# Altium footprint library D 单片机.PcbLib: 12 footprints
Each footprint in its own frame and in the unit in brackets; x right, y up, seen from the top. Pads: shape width x height; smd on the part's side, far side on the other; paste and mask are expansions set on the pad; w line width, h text height; cw(c..) or ccw(c..) is an arc to the next point about the centre after c.
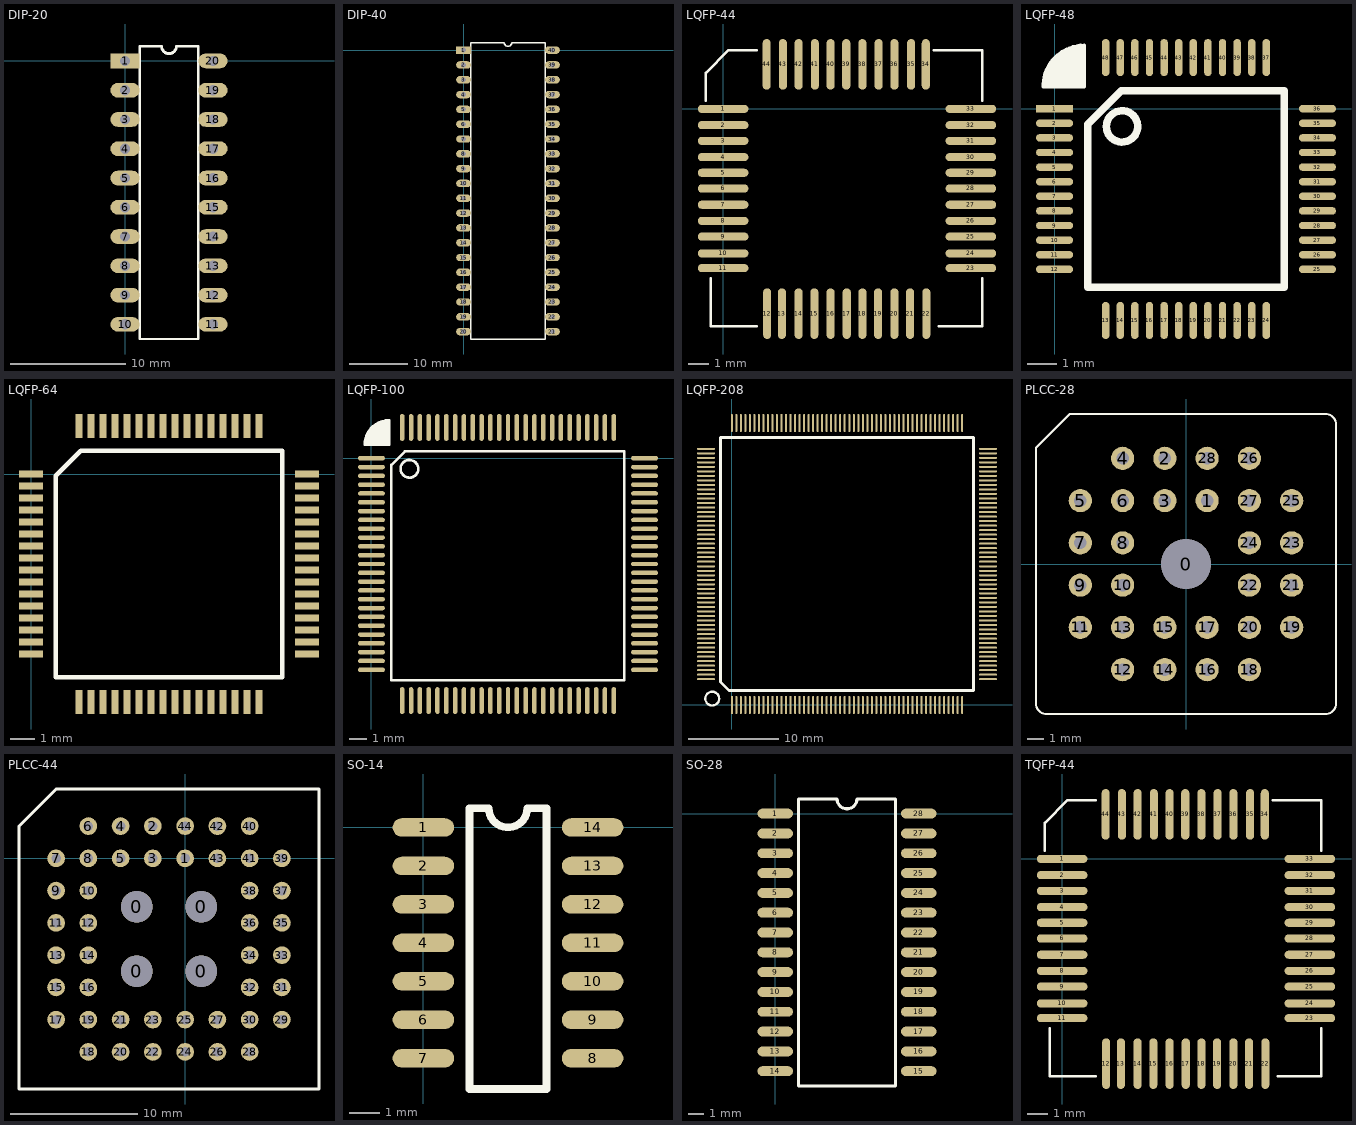
[diagram p0: the footprints below, top view; thin cyan lines are the x and y axes]

## DIP-20 [mil] "IC"
pads (20):
  rect 100x50 hole 35: 1(0,0)
  oval 100x50 hole 35: 2(0,-100) 3(0,-200) 4(0,-300) 5(0,-400) 6(0,-500) 7(0,-600) 8(0,-700) 9(0,-800) 10(0,-900) 11(300,-900) 12(300,-800) 13(300,-700) 14(300,-600) 15(300,-500) 16(300,-400) 17(300,-300) 18(300,-200) 19(300,-100) 20(300,0)
Top Overlay:
  lines w8: 125,50 50,50 50,-950 250,-950 250,50 175,50
  lines w10: 125,50 ccw(c150,50) 175,50

## DIP-40 [mil] "IC"
pads (40):
  rect 100x50 hole 32: 1(0,0)
  oval 100x50 hole 32: 2(0,-100) 3(0,-200) 4(0,-300) 5(0,-400) 6(0,-500) 7(0,-600) 8(0,-700) 9(0,-800) 10(0,-900) 11(0,-1000) 12(0,-1100) 13(0,-1200) 14(0,-1300) 15(0,-1400) 16(0,-1500) 17(0,-1600) 18(0,-1700) 19(0,-1800) 20(0,-1900) 21(600,-1900) 22(600,-1800) 23(600,-1700) 24(600,-1600) 25(600,-1500) 26(600,-1400) 27(600,-1300) 28(600,-1200) 29(600,-1100) 30(600,-1000) 31(600,-900) 32(600,-800) 33(600,-700) 34(600,-600) 35(600,-500) 36(600,-400) 37(600,-300) 38(600,-200) 39(600,-100) 40(600,0)
Top Overlay:
  lines w10: 50,-1950 50,50 275,50 ccw(c300,50) 325,50 550,50 550,-1950 50,-1950

## LQFP-44 [mil]
height 51.18
pads (44):
  oval 100x16 smd: 1(0,0) 2(0,-32) 3(0,-63) 4(0,-95) 5(0,-126) 6(0,-157) 7(0,-189) 8(0,-221) 9(0,-252) 10(0,-285) 11(0,-314) 23(489,-314) 24(489,-285) 25(489,-252) 26(489,-221) 27(489,-189) 28(489,-157) 29(489,-126) 30(489,-95) 31(489,-63) 32(489,-32) 33(489,0)
  oval 16x100 smd: 12(87,-404) 13(116,-404) 14(149,-404) 15(180,-404) 16(212,-404) 17(244,-404) 18(275,-404) 19(306,-404) 20(338,-404) 21(369,-404) 22(401,-404) 34(400,88) 35(371,88) 36(338,88) 37(307,88) 38(275,88) 39(243,88) 40(212,88) 41(181,88) 42(149,88) 43(118,88) 44(86,88)
Top Overlay:
  lines w5: -34,16 -34,46 ; -34,36 -34,71 11,116 66,116 36,116 ; -24,-334 -24,-429 66,-429 ; 416,116 511,116 511,16 ; 426,-429 501,-429 511,-429 511,-334

## LQFP-48 [mm]
height 2.235
pads (48):
  rect 1.27x0.254 smd: 1(0,0)
  oval 1.27x0.254 smd: 2(0,-0.5) 3(0,-1) 4(0,-1.5) 5(0,-2) 6(0,-2.5) 7(0,-3) 8(0,-3.5) 9(0,-4) 10(0,-4.5) 11(0,-5) 12(0,-5.5) 25(9,-5.5) 26(9,-5) 27(9,-4.5) 28(9,-4) 29(9,-3.5) 30(9,-3) 31(9,-2.5) 32(9,-2) 33(9,-1.5) 34(9,-1) 35(9,-0.5) 36(9,0)
  oval 0.254x1.27 smd: 13(1.75,-7.25) 14(2.25,-7.25) 15(2.75,-7.25) 16(3.25,-7.25) 17(3.75,-7.25) 18(4.25,-7.25) 19(4.75,-7.25) 20(5.25,-7.25) 21(5.75,-7.25) 22(6.25,-7.25) 23(6.75,-7.25) 24(7.25,-7.25) 37(7.25,1.75) 38(6.75,1.75) 39(6.25,1.75) 40(5.75,1.75) 41(5.25,1.75) 42(4.75,1.75) 43(4.25,1.75) 44(3.75,1.75) 45(3.25,1.75) 46(2.75,1.75) 47(2.25,1.75) 48(1.75,1.75)
Top Overlay:
  lines w0.127: -0.387,0.762 cw(c1.016,0.762) 1.016,2.165 ; -0.381,0.864 -0.381,0.762 1.016,0.762 1.016,2.159 ; -0.254,0.762 -0.254,1.346 ; -0.127,0.762 -0.127,1.575 ; 0,0.762 0,1.727 ; 0.127,0.762 0.127,1.829 ; 0.254,0.762 0.254,1.93 ; 0.381,0.762 0.381,2.007 ; 0.508,0.762 0.508,2.057 ; 0.635,0.762 0.635,2.108 ; 0.762,0.762 0.762,2.134 ; 0.889,0.762 0.889,2.159
  lines w0.254: 2.829,-0.471 ccw(c2.311,-0.607) 2.845,-0.559 ; 1.143,-6.107 7.857,-6.107 7.857,0.607 2.286,0.607 1.143,-0.536 1.143,-6.107

## LQFP-64 [mm]
pads (64):
  rect 1x0.28 smd: 1(0,0) 2(0,-0.5) 3(0,-1) 4(0,-1.5) 5(0,-2) 6(0,-2.5) 7(0,-3) 8(0,-3.5) 9(0,-4) 10(0,-4.5) 11(0,-5) 12(0,-5.5) 13(0,-6) 14(0,-6.5) 15(0,-7) 16(0,-7.5) 33(11.5,-7.5) 34(11.5,-7) 35(11.5,-6.5) 36(11.5,-6) 37(11.5,-5.5) 38(11.5,-5) 39(11.5,-4.5) 40(11.5,-4) 41(11.5,-3.5) 42(11.5,-3) 43(11.5,-2.5) 44(11.5,-2) 45(11.5,-1.5) 46(11.5,-1) 47(11.5,-0.5) 48(11.5,0)
  rect 0.28x1 smd: 17(2,-9.5) 18(2.5,-9.5) 19(3,-9.5) 20(3.5,-9.5) 21(4,-9.5) 22(4.5,-9.5) 23(5,-9.5) 24(5.5,-9.5) 25(6,-9.5) 26(6.5,-9.5) 27(7,-9.5) 28(7.5,-9.5) 29(8,-9.5) 30(8.5,-9.5) 31(9,-9.5) 32(9.5,-9.5) 49(9.5,2) 50(9,2) 51(8.5,2) 52(8,2) 53(7.5,2) 54(7,2) 55(6.5,2) 56(6,2) 57(5.5,2) 58(5,2) 59(4.5,2) 60(4,2) 61(3.5,2) 62(3,2) 63(2.5,2) 64(2,2)
Top Overlay:
  lines w0.2: 1.035,-8.465 1.035,-0.07 2.07,0.965 10.465,0.965 10.465,-8.465 1.035,-8.465

## LQFP-100 [mil] "14mmx14mmx1.4mm"
height 55.12
pads (100):
  oval 60x10 smd: 1(0.28,0) 2(0.27,-19.68) 3(0.27,-39.37) 4(0.27,-59.05) 5(0.27,-78.74) 6(0.27,-98.42) 7(0.27,-118.11) 8(0.27,-137.79) 9(0.27,-157.48) 10(0.27,-177.16) 11(0.27,-196.85) 12(0.27,-216.53) 13(0.27,-236.22) 14(0.27,-255.91) 15(0.27,-275.59) 16(0.27,-295.27) 17(0.27,-314.96) 18(0.27,-334.64) 19(0.27,-354.33) 20(0.27,-374.01) 21(0.27,-393.7) 22(0.27,-413.38) 23(0.27,-433.07) 24(0.27,-452.75) 25(0.27,-472.44) 51(610.2,-472.44) 52(610.19,-452.75) 53(610.2,-433.07) 54(610.19,-413.38) 55(610.19,-393.7) 56(610.19,-374.01) 57(610.19,-354.33) 58(610.2,-334.65) 59(610.19,-314.96) 60(610.19,-295.27) 61(610.19,-275.59) 62(610.19,-255.9) 63(610.2,-236.22) 64(610.2,-216.54) 65(610.19,-196.85) 66(610.19,-177.16) 67(610.19,-157.48) 68(610.19,-137.79) 69(610.19,-118.11) 70(610.19,-98.42) 71(610.19,-78.74) 72(610.19,-59.05) 73(610.2,-39.37) 74(610.19,-19.68) 75(610.2,0)
  oval 10x60 smd: 26(69.02,-541.18) 27(88.69,-541.18) 28(108.38,-541.18) 29(128.06,-541.18) 30(147.75,-541.18) 31(167.43,-541.18) 32(187.12,-541.18) 33(206.8,-541.18) 34(226.49,-541.18) 35(246.17,-541.18) 36(265.86,-541.18) 37(285.54,-541.18) 38(305.23,-541.18) 39(324.91,-541.18) 40(344.6,-541.18) 41(364.28,-541.18) 42(383.97,-541.18) 43(403.65,-541.18) 44(423.34,-541.18) 45(443.04,-541.18) 46(462.71,-541.18) 47(482.39,-541.18) 48(502.09,-541.18) 49(521.78,-541.18) 50(541.46,-541.18) 76(541.46,68.74) 77(521.76,68.74) 78(502.09,68.74) 79(482.41,68.74) 80(462.72,68.74) 81(443.04,68.74) 82(423.35,68.74) 83(403.66,68.74) 84(383.98,68.74) 85(364.29,68.74) 86(344.6,68.74) 87(324.91,68.74) 88(305.23,68.74) 89(285.54,68.74) 90(265.86,68.74) 91(246.17,68.74) 92(226.49,68.74) 93(206.8,68.74) 94(187.12,68.74) 95(167.43,68.74) 96(147.75,68.74) 97(128.06,68.74) 98(108.38,68.74) 99(88.69,68.74) 100(69.02,68.74)
Top Overlay:
  circle w6: c85.07,-23.62 r19.68
  lines w5: -15.23,30 cw(c40,30) 40,85.23 ; -15,34 -15,30 40,30 40,85 ; -10,30 -10,53 ; -5,30 -5,62 ; 0,30 0,68 ; 5,30 5,72 ; 10,30 10,76 ; 15,30 15,79 ; 20,30 20,81 ; 25,30 25,83 ; 30,30 30,84 ; 35,30 35,85
  lines w6: 44.76,-14.25 44.76,-496.06 564.76,-496.06 564.76,15.75 74.76,15.75 ; 45,-15 75,15

## LQFP-208 [mm]
pads (208):
  rect 0.22x2 smd: 1(0.01,-0.001)
  oval 0.22x2 smd: 2(0.51,-0.001) 3(1.01,-0.001) 4(1.51,-0.001) 5(2.01,-0.001) 6(2.51,-0.001) 7(3.01,-0.001) 8(3.51,-0.001) 9(4.01,-0.001) 10(4.51,-0.001) 11(5.01,-0.001) 12(5.51,-0.001) 13(6.01,-0.001) 14(6.51,-0.001) 15(7.01,-0.001) 16(7.51,-0.001) 17(8.01,-0.001) 18(8.51,-0.001) 19(9.01,-0.001) 20(9.51,-0.001) 21(10.01,-0.001) 22(10.51,-0.001) 23(11.01,-0.001) 24(11.51,-0.001) 25(12.01,-0.001) 26(12.51,-0.001) 27(13.01,-0.001) 28(13.51,-0.001) 29(14.01,-0.001) 30(14.51,-0.001) 31(15.01,-0.001) 32(15.51,-0.001) 33(16.01,-0.001) 34(16.51,-0.001) 35(17.01,-0.001) 36(17.51,-0.001) 37(18.01,-0.001) 38(18.51,-0.001) 39(19.01,-0.001) 40(19.51,-0.001) 41(20.01,-0.001) 42(20.51,-0.001) 43(21.01,-0.001) 44(21.51,-0.001) 45(22.01,-0.001) 46(22.51,-0.001) 47(23.01,-0.001) 48(23.51,-0.001) 49(24.01,-0.001) 50(24.51,-0.001) 51(25.01,-0.001) 52(25.51,-0.001) 105(25.51,31.199) 106(25.01,31.199) 107(24.51,31.199) 108(24.01,31.199) 109(23.51,31.199) 110(23.01,31.199) 111(22.51,31.199) 112(22.01,31.199) 113(21.51,31.199) 114(21.01,31.199) 115(20.51,31.199) 116(20.01,31.199) 117(19.51,31.199) 118(19.01,31.199) 119(18.51,31.199) 120(18.01,31.199) 121(17.51,31.199) 122(17.01,31.199) 123(16.51,31.199) 124(16.01,31.199) 125(15.51,31.199) 126(15.01,31.199) 127(14.51,31.199) 128(14.01,31.199) 129(13.51,31.199) 130(13.01,31.199) 131(12.51,31.199) 132(12.01,31.199) 133(11.51,31.199) 134(11.01,31.199) 135(10.51,31.199) 136(10.01,31.199) 137(9.51,31.199) 138(9.01,31.199) 139(8.51,31.199) 140(8.01,31.199) 141(7.51,31.199) 142(7.01,31.199) 143(6.51,31.199) 144(6.01,31.199) 145(5.51,31.199) 146(5.01,31.199) 147(4.51,31.199) 148(4.01,31.199) 149(3.51,31.199) 150(3.01,31.199) 151(2.51,31.199) 152(2.01,31.199) 153(1.51,31.199) 154(1.01,31.199) 155(0.51,31.199) 156(0.01,31.199)
  oval 2x0.22 smd: 53(28.36,2.849) 54(28.36,3.349) 55(28.36,3.849) 56(28.36,4.349) 57(28.36,4.849) 58(28.36,5.349) 59(28.36,5.849) 60(28.36,6.349) 61(28.36,6.849) 62(28.36,7.349) 63(28.36,7.849) 64(28.36,8.349) 65(28.36,8.849) 66(28.36,9.349) 67(28.36,9.849) 68(28.36,10.349) 69(28.36,10.849) 70(28.36,11.349) 71(28.36,11.849) 72(28.36,12.349) 73(28.36,12.849) 74(28.36,13.349) 75(28.36,13.849) 76(28.36,14.349) 77(28.36,14.849) 78(28.36,15.349) 79(28.36,15.849) 80(28.36,16.349) 81(28.36,16.849) 82(28.36,17.349) 83(28.36,17.849) 84(28.36,18.349) 85(28.36,18.849) 86(28.36,19.349) 87(28.36,19.849) 88(28.36,20.349) 89(28.36,20.849) 90(28.36,21.349) 91(28.36,21.849) 92(28.36,22.349) 93(28.36,22.849) 94(28.36,23.349) 95(28.36,23.849) 96(28.36,24.349) 97(28.36,24.849) 98(28.36,25.349) 99(28.36,25.849) 100(28.36,26.349) 101(28.36,26.849) 102(28.36,27.349) 103(28.36,27.849) 104(28.36,28.349) 157(-2.84,28.349) 158(-2.84,27.849) 159(-2.84,27.349) 160(-2.84,26.849) 161(-2.84,26.349) 162(-2.84,25.849) 163(-2.84,25.349) 164(-2.84,24.849) 165(-2.84,24.349) 166(-2.84,23.849) 167(-2.84,23.349) 168(-2.84,22.849) 169(-2.84,22.349) 170(-2.84,21.849) 171(-2.84,21.349) 172(-2.84,20.849) 173(-2.84,20.349) 174(-2.84,19.849) 175(-2.84,19.349) 176(-2.84,18.849) 177(-2.84,18.349) 178(-2.84,17.849) 179(-2.84,17.349) 180(-2.84,16.849) 181(-2.84,16.349) 182(-2.84,15.849) 183(-2.84,15.349) 184(-2.84,14.849) 185(-2.84,14.349) 186(-2.84,13.849) 187(-2.84,13.349) 188(-2.84,12.849) 189(-2.84,12.349) 190(-2.84,11.849) 191(-2.84,11.349) 192(-2.84,10.849) 193(-2.84,10.349) 194(-2.84,9.849) 195(-2.84,9.349) 196(-2.84,8.849) 197(-2.84,8.349) 198(-2.84,7.849) 199(-2.84,7.349) 200(-2.84,6.849) 201(-2.84,6.349) 202(-2.84,5.849) 203(-2.84,5.349) 204(-2.84,4.849) 205(-2.84,4.349) 206(-2.84,3.849) 207(-2.84,3.349) 208(-2.84,2.849)
Top Overlay:
  circle w0.254: c-2.154,0.699 r0.765
  lines w0.3: -1.24,2.549 -1.24,29.599 26.76,29.599 26.76,1.599 -0.29,1.599 -1.24,2.549

## PLCC-28 [mil]
height 179.92
pads (29):
  round 118.11 hole 118.11: 0(0,0)
  round 55 hole 30: 1(50,150) 2(-50,250) 3(-50,150) 4(-150,250) 5(-250,150) 6(-150,150) 7(-250,50) 8(-150,50) 9(-250,-50) 10(-150,-50) 11(-250,-150) 12(-150,-250) 13(-150,-150) 14(-50,-250) 15(-50,-150) 16(50,-250) 17(50,-150) 18(150,-250) 19(250,-150) 20(150,-150) 21(250,-50) 22(150,-50) 23(250,50) 24(150,50) 25(250,150) 26(150,250) 27(150,150) 28(50,250)
Top Overlay:
  lines w5: -355,-330 ccw(c-330,-330) -330,-355 330,-355 ccw(c330,-330) 355,-330 355,330 ccw(c330,330) 330,355 -275,355 -355,275 -355,-330

## PLCC-44 [mil] "Leaded Chip Carrier; 44 Leads; Body 16.5 x 16.5 mm"
height 179.92
pads (48):
  round 98.43 hole 98.43: 0(-150,-350) 0(-150,-150) 0(50,-350) 0(50,-150)
  round 55 hole 30: 1(0,0) 2(-100,100) 3(-100,0) 4(-200,100) 5(-200,0) 6(-300,100) 7(-400,0) 8(-300,0) 9(-400,-100) 10(-300,-100) 11(-400,-200) 12(-300,-200) 13(-400,-300) 14(-300,-300) 15(-400,-400) 16(-300,-400) 17(-400,-500) 18(-300,-600) 19(-300,-500) 20(-200,-600) 21(-200,-500) 22(-100,-600) 23(-100,-500) 24(0,-600) 25(0,-500) 26(100,-600) 27(100,-500) 28(200,-600) 29(300,-500) 30(200,-500) 31(300,-400) 32(200,-400) 33(300,-300) 34(200,-300) 35(300,-200) 36(200,-200) 37(300,-100) 38(200,-100) 39(300,0) 40(200,100) 41(200,0) 42(100,100) 43(100,0) 44(0,100)
Top Overlay:
  lines w10: -515,-715 415,-715 415,215 -400,215 -515,100 -515,-715

## SO-14 [mil]
pads (14):
  oval 80x24 smd: 1(0,0) 2(0,-50) 3(0,-100) 4(0,-150) 5(0,-200) 6(0,-250) 7(0,-300) 8(220,-300) 9(220,-250) 10(220,-200) 11(220,-150) 12(220,-100) 13(220,-50) 14(220,0)
Top Overlay:
  lines w10: 60,-175 60,-340 ; 60,-340 60,25 85,25 ccw(c110,25) 135,25 160,25 160,-340 60,-340

## SO-28 [mil]
pads (28):
  oval 90x25 smd: 1(0,0) 2(0,-50) 3(0,-100) 4(0,-150) 5(0,-200) 6(0,-250) 7(0,-300) 8(0,-350) 9(0,-400) 10(0,-450) 11(0,-500) 12(0,-550) 13(0,-600) 14(0,-650) 15(362.2,-650) 16(362.2,-600) 17(362.2,-550) 18(362.2,-500) 19(362.2,-450) 20(362.2,-400) 21(362.2,-350) 22(362.2,-300) 23(362.2,-250) 24(362.2,-200) 25(362.2,-150) 26(362.2,-100) 27(362.2,-50) 28(362.2,0)
Top Overlay:
  lines w7.87: 59.05,-687.2 59.05,37.21 156.1,37.21 ccw(c181.1,37.21) 206.1,37.21 303.15,37.21 303.15,-687.2 59.05,-687.2

## TQFP-44 [mil]
height 39.37
pads (44):
  oval 100x16 smd: 1(0,0) 2(0,-32) 3(0,-63) 4(0,-95) 5(0,-126) 6(0,-157) 7(0,-189) 8(0,-221) 9(0,-252) 10(0,-285) 11(0,-314) 23(489,-314) 24(489,-285) 25(489,-252) 26(489,-221) 27(489,-189) 28(489,-157) 29(489,-126) 30(489,-95) 31(489,-63) 32(489,-32) 33(489,0)
  oval 16x100 smd: 12(87,-404) 13(116,-404) 14(149,-404) 15(180,-404) 16(212,-404) 17(244,-404) 18(275,-404) 19(306,-404) 20(338,-404) 21(369,-404) 22(401,-404) 34(400,88) 35(371,88) 36(338,88) 37(307,88) 38(275,88) 39(243,88) 40(212,88) 41(181,88) 42(149,88) 43(118,88) 44(86,88)
Top Overlay:
  lines w5: -34,16 -34,46 ; -34,36 -34,71 11,116 66,116 36,116 ; -24,-334 -24,-429 66,-429 ; 416,116 511,116 511,16 ; 426,-429 501,-429 511,-429 511,-334